# EAGLE library part FINDER4161* (library rele)
RELAY
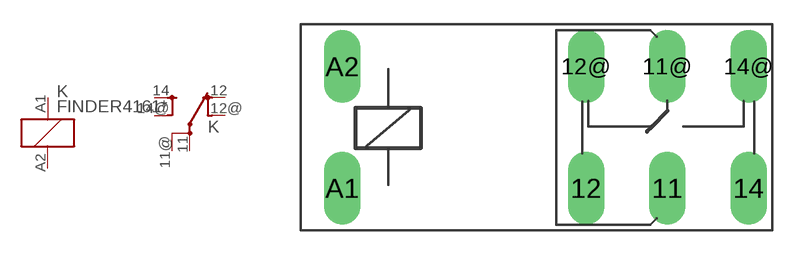
[diagram p17: symbol with the pads of 4161; footprint 4161]

Designator prefix K; gates G$1=K G$2=U-2

## FINDER416112, FINDER416124  [4161]
11  G$2:P  pas
11@  G$2:P  pas
12  G$2:O  pas
12@  G$2:O1  pas
14  G$2:S  pas
14@  G$2:S1  pas
A1  G$1:1  pas
A2  G$1:2  pas

## Footprint 4161 (pad centres in mm)
RELAY
drill 1.5 long: 11 8.05,-3.75; 11@ 8.05,3.75; 12 3.05,-3.75; 12@ 3.05,3.75; 14 13.05,-3.75; 14@ 13.05,3.75; A1 -11.95,-3.75; A2 -11.95,3.75